# EAGLE library part MAX31725MTA (library samuel)
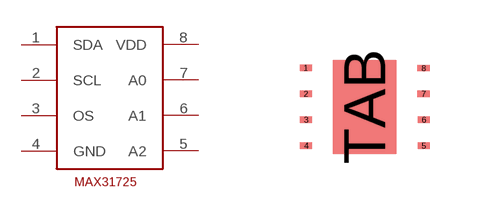
[diagram p10: symbol with the pads of TDFN-EP8; footprint TDFN-EP8]

Designator prefix -

## MAX31725MTA  [TDFN-EP8]
1  SDA
2  SCL
3  OS  out
4  GND  pwr
5  A2  in
6  A1  in
7  A0  in
8  VDD  pwr

## Footprint TDFN-EP8 (pad centres in mm)
smd 0.305 x 0.152: 1 -1.407,1.299; 2 -1.407,0.649; 3 -1.4,0; 4 -1.4,-0.649; 5 1.548,-0.649; 6 1.548,0; 7 1.541,0.649; 8 1.541,1.292
smd 1.58 x 2.35: TAB 0.066,0.325